# Altium schematic symbol library parts.SchLib: 5 symbols
Pins are listed as number, name and electrical type; pins without a type are passive.

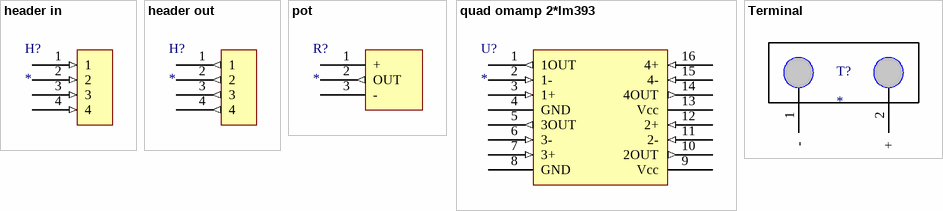
[diagram p0: symbols header in to Terminal]

## header in
designator H?
footprint headers
pins: 1 (in), 2 (in), 3 (in), 4 (in)

## header out
designator H?
footprint headers
pins: 1 (out), 2 (out), 3 (out), 4 (out)

## pot
designator R?
footprint pot
pins: 1 +, 2 OUT (out), 3 -

## quad omamp 2*lm393
designator U?
footprint quad omamp 2*lm393
pins: 1 1OUT (out), 2 1- (in), 3 1+ (in), 4 GND, 5 3OUT (out), 6 3- (in), 7 3+ (in), 8 GND, 9 Vcc, 10 2OUT (out), 11 2- (in), 12 2+ (in), 13 Vcc, 14 4OUT (out), 15 4- (in), 16 4+ (in)

## Terminal
designator T?
footprint Terminal
pins: 1 -, 2 +